# Altium footprint library SparkFun-DigitalIC.PCBLIB: 112 footprints (part 7 of 7)
Each footprint in its own frame and in the unit in brackets; x right, y up, seen from the top. Pads: shape width x height; smd on the part's side, far side on the other; paste and mask are expansions set on the pad; w line width, h text height; cw(c..) or ccw(c..) is an arc to the next point about the centre after c.
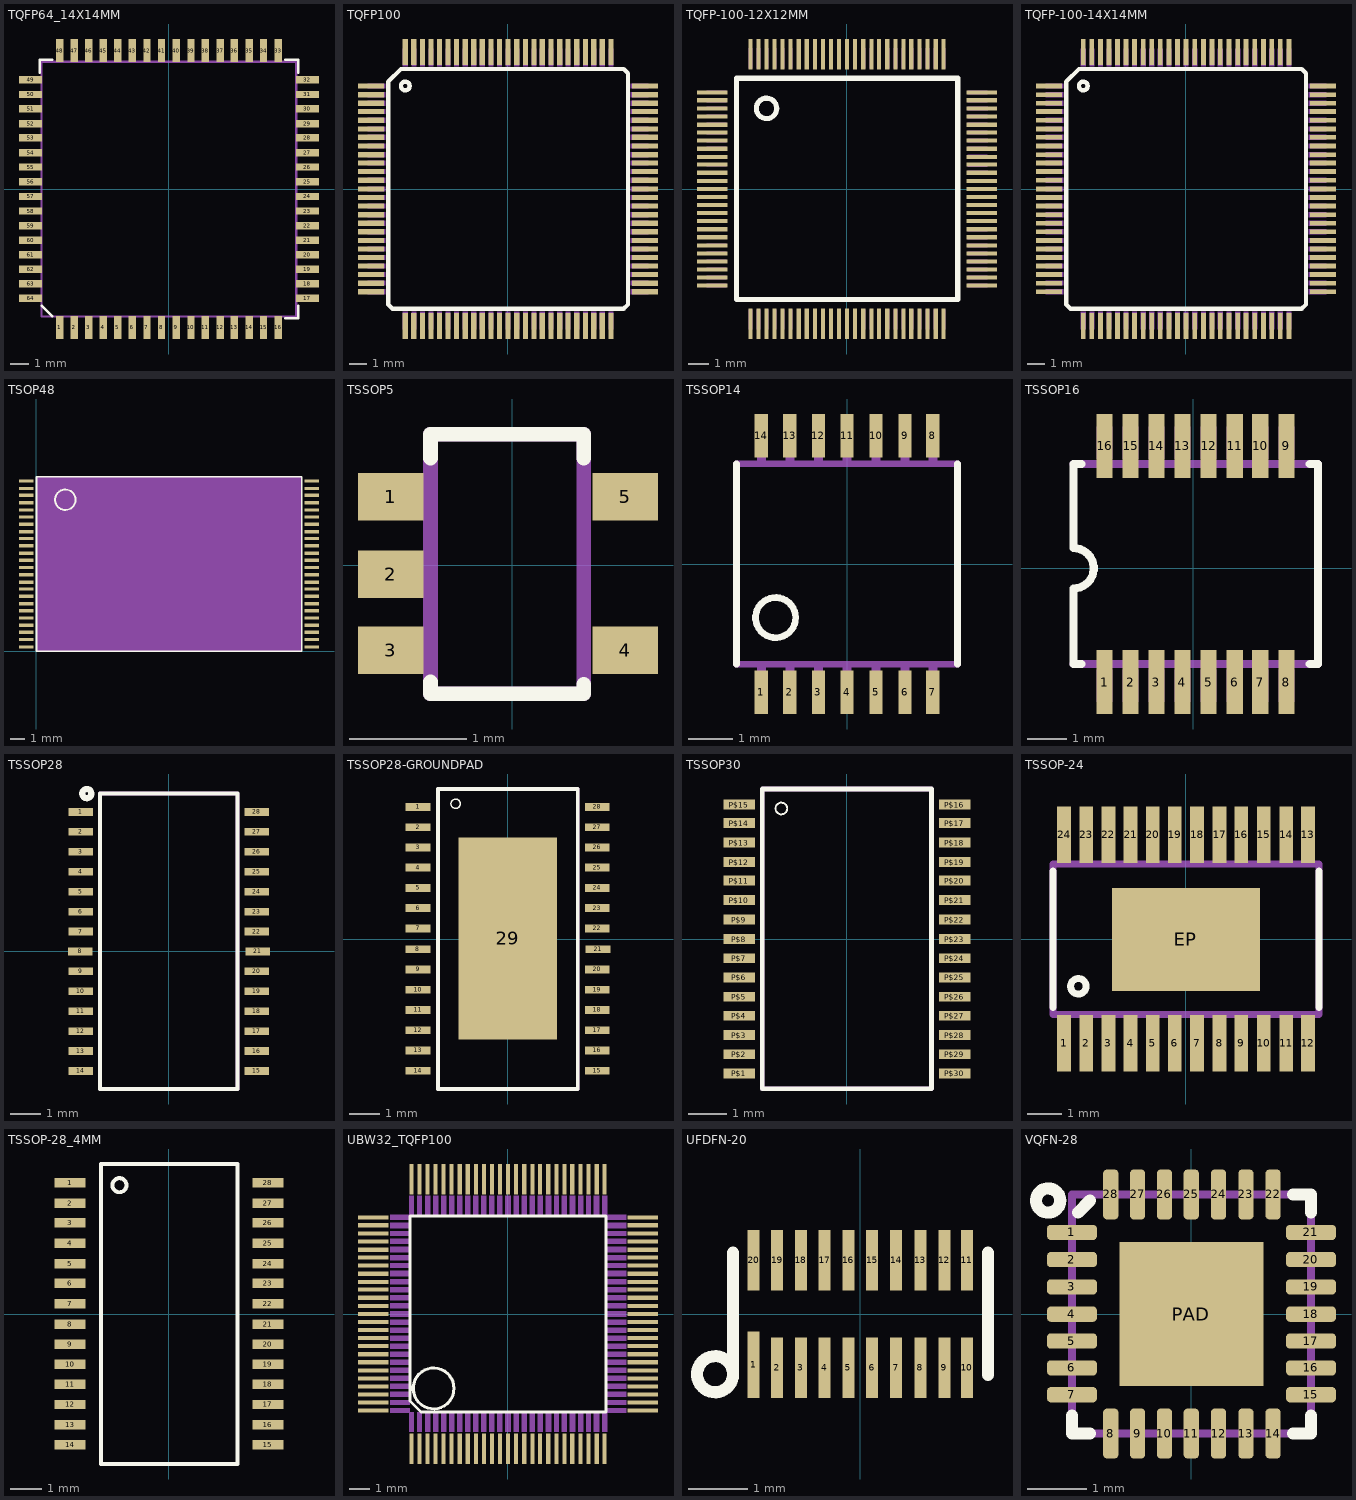
[diagram p6: the footprints below, top view; thin cyan lines are the x and y axes]

## TQFP64_14X14MM [mil]
pads (64):
  rect 16x50 smd: 1(-236.22,-299.21) 2(-204.72,-299.21) 3(-173.23,-299.21) 4(-141.73,-299.21) 5(-110.24,-299.21) 6(-78.74,-299.21) 7(-47.24,-299.21) 8(-15.75,-299.21) 9(16,-299.21) 10(48,-299.21) 11(79,-299.21) 12(111,-299.21) 13(142,-299.21) 14(174,-299.21) 15(205,-299.21) 16(237,-299.21) 33(237,300) 34(205,300) 35(174,300) 36(142,300) 37(111,300) 38(79,300) 39(48,300) 40(16,300) 41(-15.75,300) 42(-47.24,300) 43(-78.74,300) 44(-110.24,300) 45(-141.73,300) 46(-173.23,300) 47(-204.72,300) 48(-236.22,300)
  rect 50x16 smd: 17(300,-236.22) 18(300,-204.72) 19(300,-173.23) 20(300,-141.73) 21(300,-110.24) 22(300,-78.74) 23(300,-47.24) 24(300,-15.75) 25(300,16) 26(300,48) 27(300,79) 28(300,111) 29(300,142) 30(300,174) 31(300,205) 32(300,237) 49(-299.21,237) 50(-299.21,205) 51(-299.21,174) 52(-299.21,142) 53(-299.21,111) 54(-299.21,79) 55(-299.21,48) 56(-299.21,16) 57(-299.21,-15.75) 58(-299.21,-47.24) 59(-299.21,-78.74) 60(-299.21,-110.24) 61(-299.21,-141.73) 62(-299.21,-173.23) 63(-299.21,-204.72) 64(-299.21,-236.22)
Top Overlay:
  lines w5: -279.53,252 -279.53,280 -251.97,280 ; -275.59,-251.97 -251.97,-275.59 ; 252,-279.53 280,-279.53 280,-251.97 ; 252,280 280,280 280,252
Mechanical 2:
  text ">NAME" at -200,200 h24.8
Mechanical 4:
  text ">VALUE" at -200,-200 h24.8
Mechanical 16:
  lines w5: -275.59,-275.59 -275.59,276 276,276 276,-275.59 -275.59,-275.59

## TQFP100 [mil]
pads (100):
  rect 60x12 smd: 1(-314.96,237) 2(-314.96,217) 3(-314.96,197) 4(-314.96,178) 5(-314.96,158) 6(-314.96,138) 7(-314.96,119) 8(-314.96,99) 9(-314.96,79) 10(-314.96,60) 11(-314.96,40) 12(-314.96,20) 13(-314.96,0) 14(-314.96,-19.68) 15(-314.96,-39.37) 16(-314.96,-59.06) 17(-314.96,-78.74) 18(-314.96,-98.43) 19(-314.96,-118.11) 20(-314.96,-137.8) 21(-314.96,-157.48) 22(-314.96,-177.17) 23(-314.96,-196.85) 24(-314.96,-216.54) 25(-314.96,-236.22) 51(315,-236.22) 52(315,-216.54) 53(315,-196.85) 54(315,-177.17) 55(315,-157.48) 56(315,-137.8) 57(315,-118.11) 58(315,-98.43) 59(315,-78.74) 60(315,-59.06) 61(315,-39.37) 62(315,-19.68) 63(315,0) 64(315,20) 65(315,40) 66(315,60) 67(315,79) 68(315,99) 69(315,119) 70(315,138) 71(315,158) 72(315,178) 73(315,197) 74(315,217) 75(315,237)
  rect 12x60 smd: 26(-236.22,-314.96) 27(-216.54,-314.96) 28(-196.85,-314.96) 29(-177.17,-314.96) 30(-157.48,-314.96) 31(-137.8,-314.96) 32(-118.11,-314.96) 33(-98.43,-314.96) 34(-78.74,-314.96) 35(-59.06,-314.96) 36(-39.37,-314.96) 37(-19.68,-314.96) 38(0,-314.96) 39(20,-314.96) 40(40,-314.96) 41(60,-314.96) 42(79,-314.96) 43(99,-314.96) 44(119,-314.96) 45(138,-314.96) 46(158,-314.96) 47(178,-314.96) 48(197,-314.96) 49(217,-314.96) 50(237,-314.96) 76(237,315) 77(217,315) 78(197,315) 79(178,315) 80(158,315) 81(138,315) 82(119,315) 83(99,315) 84(79,315) 85(60,315) 86(40,315) 87(20,315) 88(0,315) 89(-19.68,315) 90(-39.37,315) 91(-59.06,315) 92(-78.74,315) 93(-98.43,315) 94(-118.11,315) 95(-137.8,315) 96(-157.48,315) 97(-177.17,315) 98(-196.85,315) 99(-216.54,315) 100(-236.22,315)
Top Overlay:
  circle w10: c-236.22,237 r10
  lines w10: -275.59,-265.75 -265.75,-275.59 266,-275.59 276,-265.75 276,266 266,276 -246.06,276 -275.59,247 -275.59,-265.75
Mechanical 2:
  text ">NAME" at -200,150 h24.8
Mechanical 4:
  text ">VALUE" at -200,-150 h24.8
Mechanical 16:
  rectangle: -322.83,231 -281.5,243
  rectangle: -322.83,211 -281.5,223
  rectangle: -322.83,191 -281.5,203
  rectangle: -322.83,172 -281.5,184
  rectangle: -322.83,152 -281.5,164
  rectangle: -322.83,132 -281.5,144
  rectangle: -322.83,113 -281.5,125
  rectangle: -322.83,93 -281.5,105
  rectangle: -322.83,73 -281.5,85
  rectangle: -322.83,54 -281.5,65
  rectangle: -322.83,34 -281.5,46
  rectangle: -322.83,14 -281.5,26
  rectangle: -322.83,-5.91 -281.5,6
  rectangle: -322.83,-25.59 -281.5,-13.78
  rectangle: -322.83,-45.28 -281.5,-33.46
  rectangle: -322.83,-64.96 -281.5,-53.15
  rectangle: -322.83,-84.65 -281.5,-72.83
  rectangle: -322.83,-104.33 -281.5,-92.52
  rectangle: -322.83,-124.02 -281.5,-112.2
  rectangle: -322.83,-143.7 -281.5,-131.89
  rectangle: -322.83,-163.39 -281.5,-151.57
  rectangle: -322.83,-183.07 -281.5,-171.26
  rectangle: -322.83,-202.76 -281.5,-190.94
  rectangle: -322.83,-222.44 -281.5,-210.63
  rectangle: -322.83,-242.13 -281.5,-230.31
  rectangle: -242.13,-322.83 -230.31,-281.5
  rectangle: -222.44,-322.83 -210.63,-281.5
  rectangle: -202.76,-322.83 -190.94,-281.5
  rectangle: -183.07,-322.83 -171.26,-281.5
  rectangle: -163.39,-322.83 -151.57,-281.5
  rectangle: -143.7,-322.83 -131.89,-281.5
  rectangle: -124.02,-322.83 -112.2,-281.5
  rectangle: -104.33,-322.83 -92.52,-281.5
  rectangle: -84.65,-322.83 -72.83,-281.5
  rectangle: -64.96,-322.83 -53.15,-281.5
  rectangle: -45.28,-322.83 -33.46,-281.5
  rectangle: -25.59,-322.83 -13.78,-281.5
  rectangle: -5.91,-322.83 6,-281.5
  rectangle: 14,-322.83 26,-281.5
  rectangle: 34,-322.83 46,-281.5
  rectangle: 54,-322.83 65,-281.5
  rectangle: 73,-322.83 85,-281.5
  rectangle: 93,-322.83 105,-281.5
  rectangle: 113,-322.83 125,-281.5
  rectangle: 132,-322.83 144,-281.5
  rectangle: 152,-322.83 164,-281.5
  rectangle: 172,-322.83 184,-281.5
  rectangle: 191,-322.83 203,-281.5
  rectangle: 211,-322.83 223,-281.5
  rectangle: 231,-322.83 243,-281.5
  rectangle: 282,-242.13 323,-230.31
  rectangle: 282,-222.44 323,-210.63
  rectangle: 282,-202.76 323,-190.94
  rectangle: 282,-183.07 323,-171.26
  rectangle: 282,-163.39 323,-151.57
  rectangle: 282,-143.7 323,-131.89
  rectangle: 282,-124.02 323,-112.2
  rectangle: 282,-104.33 323,-92.52
  rectangle: 282,-84.65 323,-72.83
  rectangle: 282,-64.96 323,-53.15
  rectangle: 282,-45.28 323,-33.46
  rectangle: 282,-25.59 323,-13.78
  rectangle: 282,-5.91 323,6
  rectangle: 282,14 323,26
  rectangle: 282,34 323,46
  rectangle: 282,54 323,65
  rectangle: 282,73 323,85
  rectangle: 282,93 323,105
  rectangle: 282,113 323,125
  rectangle: 282,132 323,144
  rectangle: 282,152 323,164
  rectangle: 282,172 323,184
  rectangle: 282,191 323,203
  rectangle: 282,211 323,223
  rectangle: 282,231 323,243
  rectangle: 231,282 243,323
  rectangle: 211,282 223,323
  rectangle: 191,282 203,323
  rectangle: 172,282 184,323
  rectangle: 152,282 164,323
  rectangle: 132,282 144,323
  rectangle: 113,282 125,323
  rectangle: 93,282 105,323
  rectangle: 73,282 85,323
  rectangle: 54,282 65,323
  rectangle: 34,282 46,323
  rectangle: 14,282 26,323
  rectangle: -5.91,282 6,323
  rectangle: -25.59,282 -13.78,323
  rectangle: -45.28,282 -33.46,323
  rectangle: -64.96,282 -53.15,323
  rectangle: -84.65,282 -72.83,323
  rectangle: -104.33,282 -92.52,323
  rectangle: -124.02,282 -112.2,323
  rectangle: -143.7,282 -131.89,323
  rectangle: -163.39,282 -151.57,323
  rectangle: -183.07,282 -171.26,323
  rectangle: -202.76,282 -190.94,323
  rectangle: -222.44,282 -210.63,323
  rectangle: -242.13,282 -230.31,323

## TQFP-100-12X12MM [mil]
pads (100):
  rect 60x8 smd: 1(-263.78,189) 2(-263.78,174) 3(-263.78,158) 4(-263.78,142) 5(-263.78,126) 6(-263.78,111) 7(-263.78,95) 8(-263.78,79) 9(-263.78,63) 10(-263.78,48) 11(-263.78,32) 12(-263.78,16) 13(-263.78,0) 14(-263.78,-15.75) 15(-263.78,-31.5) 16(-263.78,-47.24) 17(-263.78,-62.99) 18(-263.78,-78.74) 19(-263.78,-94.49) 20(-263.78,-110.24) 21(-263.78,-125.98) 22(-263.78,-141.73) 23(-263.78,-157.48) 24(-263.78,-173.23) 25(-263.78,-188.98) 51(264,-188.98) 52(264,-173.23) 53(264,-157.48) 54(264,-141.73) 55(264,-125.98) 56(264,-110.24) 57(264,-94.49) 58(264,-78.74) 59(264,-62.99) 60(264,-47.24) 61(264,-31.5) 62(264,-15.75) 63(264,0) 64(264,16) 65(264,32) 66(264,48) 67(264,63) 68(264,79) 69(264,95) 70(264,111) 71(264,126) 72(264,142) 73(264,158) 74(264,174) 75(264,189)
  rect 8x60 smd: 26(-188.98,-263.78) 27(-173.23,-263.78) 28(-157.48,-263.78) 29(-141.73,-263.78) 30(-125.98,-263.78) 31(-110.24,-263.78) 32(-94.49,-263.78) 33(-78.74,-263.78) 34(-62.99,-263.78) 35(-47.24,-263.78) 36(-31.5,-263.78) 37(-15.75,-263.78) 38(0,-263.78) 39(16,-263.78) 40(32,-263.78) 41(48,-263.78) 42(63,-263.78) 43(79,-263.78) 44(95,-263.78) 45(111,-263.78) 46(126,-263.78) 47(142,-263.78) 48(158,-263.78) 49(174,-263.78) 50(189,-263.78) 76(189,264) 77(174,264) 78(158,264) 79(142,264) 80(126,264) 81(111,264) 82(95,264) 83(79,264) 84(63,264) 85(48,264) 86(32,264) 87(16,264) 88(0,264) 89(-15.75,264) 90(-31.5,264) 91(-47.24,264) 92(-62.99,264) 93(-78.74,264) 94(-94.49,264) 95(-110.24,264) 96(-125.98,264) 97(-141.73,264) 98(-157.48,264) 99(-173.23,264) 100(-188.98,264)
Top Overlay:
  circle w10: c-157.48,158 r20
  lines w10: -216.54,-216.54 -216.54,217 217,217 217,-216.54 -216.54,-216.54
Mechanical 2:
  text ">NAME" at -157.48,79 h24.8
Mechanical 4:
  text ">VALUE" at -157.48,-98.43 h24.8
Mechanical 16:
  region: -236.01,185.96 -236.01,193.04 -275.01,193.04 -275.01,185.96
  region: -236.01,169.96 -236.01,177.04 -275.01,177.04 -275.01,169.96
  region: -235.51,154.46 -235.51,161.54 -275.51,161.54 -275.51,154.46
  region: -236.01,138.96 -236.01,146.04 -275.01,146.04 -275.01,138.96
  region: -236.01,122.96 -236.01,130.04 -275.01,130.04 -275.01,122.96
  region: -236.01,106.96 -236.01,114.04 -275.01,114.04 -275.01,106.96
  region: -235.51,91.46 -235.51,98.54 -275.51,98.54 -275.51,91.46
  region: -236.01,75.96 -236.01,83.04 -275.01,83.04 -275.01,75.96
  region: -236.01,59.96 -236.01,67.04 -275.01,67.04 -275.01,59.96
  region: -236.01,43.96 -236.01,51.04 -275.01,51.04 -275.01,43.96
  region: -235.51,28.46 -235.51,35.54 -275.51,35.54 -275.51,28.46
  region: -235.54,12.49 -235.54,19.57 -275.48,19.57 -275.48,12.49
  region: -235.67,-3.39 -235.67,3.7 -275.35,3.7 -275.35,-3.39
  region: -235.8,-19.26 -235.8,-12.17 -275.23,-12.17 -275.23,-19.26
  region: -235.83,-35.04 -235.83,-27.95 -275.2,-27.95 -275.2,-35.04
  region: -235.83,-50.79 -235.83,-43.7 -275.2,-43.7 -275.2,-50.79
  region: -235.83,-66.54 -235.83,-59.45 -275.2,-59.45 -275.2,-66.54
  region: -235.83,-82.28 -235.83,-75.2 -275.2,-75.2 -275.2,-82.28
  region: -235.83,-98.03 -235.83,-90.94 -275.2,-90.94 -275.2,-98.03
  region: -235.83,-113.78 -235.83,-106.69 -275.2,-106.69 -275.2,-113.78
  region: -235.83,-129.53 -235.83,-122.44 -275.2,-122.44 -275.2,-129.53
  region: -235.83,-145.28 -235.83,-138.19 -275.2,-138.19 -275.2,-145.28
  region: -235.83,-161.02 -235.83,-153.94 -275.2,-153.94 -275.2,-161.02
  region: -235.83,-176.77 -235.83,-169.69 -275.2,-169.69 -275.2,-176.77
  region: -235.83,-192.52 -235.83,-185.43 -275.2,-185.43 -275.2,-192.52
  region: -185.43,-235.83 -192.52,-235.83 -192.52,-275.2 -185.43,-275.2
  region: -169.69,-235.83 -176.77,-235.83 -176.77,-275.2 -169.69,-275.2
  region: -153.94,-235.83 -161.02,-235.83 -161.02,-275.2 -153.94,-275.2
  region: -138.19,-235.83 -145.28,-235.83 -145.28,-275.2 -138.19,-275.2
  region: -122.44,-235.83 -129.53,-235.83 -129.53,-275.2 -122.44,-275.2
  region: -106.69,-235.83 -113.78,-235.83 -113.78,-275.2 -106.69,-275.2
  region: -90.94,-235.83 -98.03,-235.83 -98.03,-275.2 -90.94,-275.2
  region: -75.2,-235.83 -82.28,-235.83 -82.28,-275.2 -75.2,-275.2
  region: -59.45,-235.83 -66.54,-235.83 -66.54,-275.2 -59.45,-275.2
  region: -43.7,-235.83 -50.79,-235.83 -50.79,-275.2 -43.7,-275.2
  region: -27.95,-235.83 -35.04,-235.83 -35.04,-275.2 -27.95,-275.2
  region: -12.2,-235.83 -19.29,-235.83 -19.29,-275.2 -12.2,-275.2
  region: 4,-235.83 -3.54,-235.83 -3.54,-275.2 4,-275.2
  region: 20,-235.83 13,-235.83 13,-275.2 20,-275.2
  region: 36,-235.83 28,-235.83 28,-275.2 36,-275.2
  region: 51,-235.83 44,-235.83 44,-275.2 51,-275.2
  region: 67,-235.83 60,-235.83 60,-275.2 67,-275.2
  region: 83,-235.83 76,-235.83 76,-275.2 83,-275.2
  region: 99,-235.83 91,-235.83 91,-275.2 99,-275.2
  region: 114,-235.83 107,-235.83 107,-275.2 114,-275.2
  region: 130,-235.83 123,-235.83 123,-275.2 130,-275.2
  region: 146,-235.83 139,-235.83 139,-275.2 146,-275.2
  region: 162,-235.83 154,-235.83 154,-275.2 162,-275.2
  region: 162,-235.83 154,-235.83 154,-275.2 162,-275.2
  region: 177,-235.83 170,-235.83 170,-275.2 177,-275.2
  region: 193,-235.83 186,-235.83 186,-275.2 193,-275.2
  region: 236.31,-184.98 236.31,-192.98 275.69,-192.98 275.69,-184.98
  region: 236.31,-169.23 236.31,-177.23 275.69,-177.23 275.69,-169.23
  region: 236.31,-153.48 236.31,-161.48 275.69,-161.48 275.69,-153.48
  region: 236.31,-153.48 236.31,-161.48 275.69,-161.48 275.69,-153.48
  region: 236.31,-137.73 236.31,-145.73 275.69,-145.73 275.69,-137.73
  region: 236.31,-137.73 236.31,-145.73 275.69,-145.73 275.69,-137.73
  region: 236.31,-121.98 236.31,-129.98 275.69,-129.98 275.69,-121.98
  region: 236.31,-106.24 236.31,-114.24 275.69,-114.24 275.69,-106.24
  region: 236.31,-90.49 236.31,-98.49 275.69,-98.49 275.69,-90.49
  region: 236.31,-74.74 236.31,-82.74 275.69,-82.74 275.69,-74.74
  region: 236.31,-58.99 236.31,-66.99 275.69,-66.99 275.69,-58.99
  region: 236.31,-43.24 236.31,-51.24 275.69,-51.24 275.69,-43.24
  region: 236.31,-27.5 236.31,-35.5 275.69,-35.5 275.69,-27.5
  region: 236.28,-11.72 236.28,-19.72 275.72,-19.72 275.72,-11.72
  region: 236.16,4.16 236.16,-3.84 275.84,-3.84 275.84,4.16
  region: 236.03,20.03 236.03,12.03 275.97,12.03 275.97,20.03
  region: 236,36 236,28 276,28 276,36
  region: 236.5,51.5 236.5,43.5 275.5,43.5 275.5,51.5
  region: 236.5,67.5 236.5,59.5 275.5,59.5 275.5,67.5
  region: 236.5,83.5 236.5,75.5 275.5,75.5 275.5,83.5
  region: 236,99 236,91 276,91 276,99
  region: 236.5,114.5 236.5,106.5 275.5,106.5 275.5,114.5
  region: 236.5,130.5 236.5,122.5 275.5,122.5 275.5,130.5
  region: 236.5,146.5 236.5,138.5 275.5,138.5 275.5,146.5
  region: 236,162 236,154 276,154 276,162
  region: 236.5,177.5 236.5,169.5 275.5,169.5 275.5,177.5
  region: 236.5,193.5 236.5,185.5 275.5,185.5 275.5,193.5
  rectangle: 186,236 193,276
  rectangle: 170,236 177,276
  rectangle: 154,236 162,276
  rectangle: 139,236 146,276
  rectangle: 123,236 130,276
  rectangle: 107,236 114,276
  rectangle: 91,236 99,276
  rectangle: 76,236 83,276
  rectangle: 60,236 67,276
  rectangle: 44,236 51,276
  rectangle: 28,236 36,276
  rectangle: 13,236 20,276
  rectangle: -3.54,236 4,276
  rectangle: -19.29,236 -12.2,276
  rectangle: -35.04,236 -27.95,276
  rectangle: -50.79,236 -43.7,276
  rectangle: -66.54,236 -59.45,276
  rectangle: -82.28,236 -75.2,276
  rectangle: -82.28,236 -75.2,276
  rectangle: -98.03,236 -90.94,276
  rectangle: -113.78,236 -106.69,276
  rectangle: -129.53,236 -122.44,276
  rectangle: -145.28,236 -138.19,276
  rectangle: -161.02,236 -153.94,276
  rectangle: -176.77,236 -169.69,276
  rectangle: -192.52,236 -185.43,276

## TQFP-100-14X14MM [mil]
pads (100):
  rect 60x11 smd: 1(-314.96,237) 2(-314.96,217) 3(-314.96,197) 4(-314.96,178) 5(-314.96,158) 6(-314.96,138) 7(-314.96,119) 8(-314.96,99) 9(-314.96,79) 10(-314.96,60) 11(-314.96,40) 12(-314.96,20) 13(-314.96,0) 14(-314.96,-19.68) 15(-314.96,-39.37) 16(-314.96,-59.06) 17(-314.96,-78.74) 18(-314.96,-98.43) 19(-314.96,-118.11) 20(-314.96,-137.8) 21(-314.96,-157.48) 22(-314.96,-177.17) 23(-314.96,-196.85) 24(-314.96,-216.54) 25(-314.96,-236.22) 51(315,-236.22) 52(315,-216.54) 53(315,-196.85) 54(315,-177.17) 55(315,-157.48) 56(315,-137.8) 57(315,-118.11) 58(315,-98.43) 59(315,-78.74) 60(315,-59.06) 61(315,-39.37) 62(315,-19.68) 63(315,0) 64(315,20) 65(315,40) 66(315,60) 67(315,79) 68(315,99) 69(315,119) 70(315,138) 71(315,158) 72(315,178) 73(315,197) 74(315,217) 75(315,237)
  rect 11x60 smd: 26(-236.22,-314.96) 27(-216.54,-314.96) 28(-196.85,-314.96) 29(-177.17,-314.96) 30(-157.48,-314.96) 31(-137.8,-314.96) 32(-118.11,-314.96) 33(-98.43,-314.96) 34(-78.74,-314.96) 35(-59.06,-314.96) 36(-39.37,-314.96) 37(-19.68,-314.96) 38(0,-314.96) 39(20,-314.96) 40(40,-314.96) 41(60,-314.96) 42(79,-314.96) 43(99,-314.96) 44(119,-314.96) 45(138,-314.96) 46(158,-314.96) 47(178,-314.96) 48(197,-314.96) 49(217,-314.96) 50(237,-314.96) 76(237,315) 77(217,315) 78(197,315) 79(178,315) 80(158,315) 81(138,315) 82(119,315) 83(99,315) 84(79,315) 85(60,315) 86(40,315) 87(20,315) 88(0,315) 89(-19.68,315) 90(-39.37,315) 91(-59.06,315) 92(-78.74,315) 93(-98.43,315) 94(-118.11,315) 95(-137.8,315) 96(-157.48,315) 97(-177.17,315) 98(-196.85,315) 99(-216.54,315) 100(-236.22,315)
Top Overlay:
  circle w10: c-236.22,237 r10
  lines w10: -275.59,-265.75 -265.75,-275.59 266,-275.59 276,-265.75 276,266 266,276 -246.06,276 -275.59,247 -275.59,-265.75
Mechanical 2:
  text ">NAME" at -151.77,164 h24.8
Mechanical 4:
  text ">VALUE" at -151.19,-170.07 h24.8
Mechanical 16:
  rectangle: -322.83,231 -281.5,243
  rectangle: -322.83,211 -281.5,223
  rectangle: -322.83,191 -281.5,203
  rectangle: -322.83,172 -281.5,184
  rectangle: -322.83,152 -281.5,164
  rectangle: -322.83,132 -281.5,144
  rectangle: -322.83,113 -281.5,125
  rectangle: -322.83,93 -281.5,105
  rectangle: -322.83,73 -281.5,85
  rectangle: -322.83,54 -281.5,65
  rectangle: -322.83,34 -281.5,46
  rectangle: -322.83,14 -281.5,26
  rectangle: -322.83,-5.91 -281.5,6
  rectangle: -322.83,-25.59 -281.5,-13.78
  rectangle: -322.83,-45.28 -281.5,-33.46
  rectangle: -322.83,-64.96 -281.5,-53.15
  rectangle: -322.83,-84.65 -281.5,-72.83
  rectangle: -322.83,-104.33 -281.5,-92.52
  rectangle: -322.83,-124.02 -281.5,-112.2
  rectangle: -322.83,-143.7 -281.5,-131.89
  rectangle: -322.83,-163.39 -281.5,-151.57
  rectangle: -322.83,-183.07 -281.5,-171.26
  rectangle: -322.83,-202.76 -281.5,-190.94
  rectangle: -322.83,-222.44 -281.5,-210.63
  rectangle: -322.83,-242.13 -281.5,-230.31
  rectangle: -242.13,-322.83 -230.31,-281.5
  rectangle: -222.44,-322.83 -210.63,-281.5
  rectangle: -202.76,-322.83 -190.94,-281.5
  rectangle: -183.07,-322.83 -171.26,-281.5
  rectangle: -163.39,-322.83 -151.57,-281.5
  rectangle: -143.7,-322.83 -131.89,-281.5
  rectangle: -124.02,-322.83 -112.2,-281.5
  rectangle: -104.33,-322.83 -92.52,-281.5
  rectangle: -84.65,-322.83 -72.83,-281.5
  rectangle: -64.96,-322.83 -53.15,-281.5
  rectangle: -45.28,-322.83 -33.46,-281.5
  rectangle: -25.59,-322.83 -13.78,-281.5
  rectangle: -5.91,-322.83 6,-281.5
  rectangle: 14,-322.83 26,-281.5
  rectangle: 34,-322.83 46,-281.5
  rectangle: 54,-322.83 65,-281.5
  rectangle: 73,-322.83 85,-281.5
  rectangle: 93,-322.83 105,-281.5
  rectangle: 113,-322.83 125,-281.5
  rectangle: 132,-322.83 144,-281.5
  rectangle: 152,-322.83 164,-281.5
  rectangle: 172,-322.83 184,-281.5
  rectangle: 191,-322.83 203,-281.5
  rectangle: 211,-322.83 223,-281.5
  rectangle: 231,-322.83 243,-281.5
  rectangle: 282,-242.13 323,-230.31
  rectangle: 282,-222.44 323,-210.63
  rectangle: 282,-202.76 323,-190.94
  rectangle: 282,-183.07 323,-171.26
  rectangle: 282,-163.39 323,-151.57
  rectangle: 282,-143.7 323,-131.89
  rectangle: 282,-124.02 323,-112.2
  rectangle: 282,-104.33 323,-92.52
  rectangle: 282,-84.65 323,-72.83
  rectangle: 282,-64.96 323,-53.15
  rectangle: 282,-45.28 323,-33.46
  rectangle: 282,-25.59 323,-13.78
  rectangle: 282,-5.91 323,6
  rectangle: 282,14 323,26
  rectangle: 282,34 323,46
  rectangle: 282,54 323,65
  rectangle: 282,73 323,85
  rectangle: 282,93 323,105
  rectangle: 282,113 323,125
  rectangle: 282,132 323,144
  rectangle: 282,152 323,164
  rectangle: 282,172 323,184
  rectangle: 282,191 323,203
  rectangle: 282,211 323,223
  rectangle: 282,231 323,243
  rectangle: 231,282 243,323
  rectangle: 211,282 223,323
  rectangle: 191,282 203,323
  rectangle: 172,282 184,323
  rectangle: 152,282 164,323
  rectangle: 132,282 144,323
  rectangle: 113,282 125,323
  rectangle: 93,282 105,323
  rectangle: 73,282 85,323
  rectangle: 54,282 65,323
  rectangle: 34,282 46,323
  rectangle: 14,282 26,323
  rectangle: -5.91,282 6,323
  rectangle: -25.59,282 -13.78,323
  rectangle: -45.28,282 -33.46,323
  rectangle: -64.96,282 -53.15,323
  rectangle: -84.65,282 -72.83,323
  rectangle: -104.33,282 -92.52,323
  rectangle: -124.02,282 -112.2,323
  rectangle: -143.7,282 -131.89,323
  rectangle: -163.39,282 -151.57,323
  rectangle: -183.07,282 -171.26,323
  rectangle: -202.76,282 -190.94,323
  rectangle: -222.44,282 -210.63,323
  rectangle: -242.13,282 -230.31,323

## TSOP48 [mil]
pads (48):
  rect 40x9 smd: 1(-27.56,465) 2(-27.56,445) 3(-27.56,426) 4(-27.56,406) 5(-27.56,386) 6(-27.56,367) 7(-27.56,347) 8(-27.56,327) 9(-27.56,308) 10(-27.56,288) 11(-27.56,268) 12(-27.56,249) 13(-27.56,229) 14(-27.56,209) 15(-27.56,189) 16(-27.56,170) 17(-27.56,150) 18(-27.56,130) 19(-27.56,111) 20(-27.56,91) 21(-27.56,71) 22(-27.56,52) 23(-27.56,32) 24(-27.56,12) 25(752,12) 26(752,32) 27(752,52) 28(752,71) 29(752,91) 30(752,111) 31(752,130) 32(752,150) 33(752,170) 34(752,189) 35(752,209) 36(752,229) 37(752,249) 38(752,268) 39(752,288) 40(752,308) 41(752,327) 42(752,347) 43(752,367) 44(752,386) 45(752,406) 46(752,426) 47(752,445) 48(752,465)
Top Overlay:
  circle w5: c79,414 r28
  lines w5: 0,0 725,0 725,477 0,477 0,0
Mechanical 2:
  text ">NAME" at 20,493 h24.8
Mechanical 4:
  text ">VALUE" at 119,493 h24.8
Mechanical 16:
  rectangle: 0,0 725,477

## TSSOP5 [mil]
pads (5):
  rect 22x16 smd: 1(-40.94,23) 2(-40.94,-3.15) 3(-40.94,-28.74) 4(38,-28.74) 5(38,23)
Top Overlay:
  lines w5: -27.56,-39.37 -27.56,-43.31 24,-43.31 24,-40.16 ; -27.56,36 -27.56,44 24,44 ; 24,36 24,44 ; 24,44 24,44
Mechanical 2:
  text ">Name" at -27.95,-61.42 h15.5
Mechanical 4:
  text ">Value" at -27.17,50 h15.5
Mechanical 16:
  lines w5: -27.56,-43.31 24,-43.31 24,44 -27.56,44 -27.56,-43.31

## TSSOP14 [mil]
pads (14):
  rect 12x39 smd: 1(-76.77,-114.87) 2(-51.18,-114.87) 3(-25.59,-114.87) 4(0,-114.87) 5(26,-114.87) 6(52,-114.87) 7(77,-114.87) 8(77,115) 9(52,115) 10(26,115) 11(0,115) 12(-25.59,115) 13(-51.18,115) 14(-76.77,115)
Top Overlay:
  circle w6: c-64,-48 r18
  lines w6: -99,-89.87 -99,90 ; 99,-89.87 99,90
Mechanical 2:
  text ">NAME" at -114,-82 h62
Mechanical 4:
  text ">VALUE" at 153,-82 h62
Mechanical 16:
  rectangle: -80.77,-122.87 -72.77,-89.87
  rectangle: -55.18,-122.87 -47.18,-89.87
  rectangle: -29.59,-122.87 -21.59,-89.87
  rectangle: -4,-122.87 4,-89.87
  rectangle: 22,-122.87 30,-89.87
  rectangle: 48,-122.87 56,-89.87
  rectangle: 73,-122.87 81,-89.87
  rectangle: 73,90 81,123
  rectangle: 48,90 56,123
  rectangle: 22,90 30,123
  rectangle: -4,90 4,123
  rectangle: -29.59,90 -21.59,123
  rectangle: -55.18,90 -47.18,123
  rectangle: -80.77,90 -72.77,123
  lines w6: -99,-89.87 99,-89.87 ; -99,90 99,90

## TSSOP16 [mil]
pads (16):
  rect 16x63 smd: 1(-87.6,-112.2) 2(-62.01,-112.2) 3(-36.42,-112.2) 4(-10.83,-112.2) 5(15,-112.2) 6(41,-112.2) 7(66,-112.2) 8(92,-112.2) 9(92,121) 10(66,121) 11(41,121) 12(15,121) 13(-10.83,121) 14(-36.42,121) 15(-62.01,121) 16(-87.6,121)
Top Overlay:
  lines w8: -110.24,-94.49 -118.11,-94.49 -118.11,-19.68 ccw(c-118.11,0.16) -118.11,20 -118.11,103 -110.24,103 ; 115,-94.49 123,-94.49 123,103 115,103
Mechanical 2:
  text ">NAME" at -60,-50 h37.2
Mechanical 4:
  text ">VALUE" at -60,35 h37.2
Mechanical 16:
  rectangle: -95.47,-131.89 -79.72,-99.6
  rectangle: -69.88,-131.89 -54.13,-99.6
  rectangle: -44.29,-131.89 -28.54,-99.6
  rectangle: -18.7,-131.89 -2.95,-99.6
  rectangle: 7,-131.89 23,-99.6
  rectangle: 33,-131.89 49,-99.6
  rectangle: 59,-131.89 74,-99.6
  rectangle: 84,-131.89 100,-99.6
  rectangle: 84,108 100,140
  rectangle: 59,108 74,140
  rectangle: 33,108 49,140
  rectangle: 7,108 23,140
  rectangle: -18.7,108 -2.95,140
  rectangle: -44.29,108 -28.54,140
  rectangle: -69.88,108 -54.13,140
  rectangle: -95.47,108 -79.72,140
  rectangle: -95.47,-131.89 -79.72,-99.6
  rectangle: -69.88,-131.89 -54.13,-99.6
  rectangle: -44.29,-131.89 -28.54,-99.6
  rectangle: -18.7,-131.89 -2.95,-99.6
  rectangle: 7,-131.89 23,-99.6
  rectangle: 33,-131.89 49,-99.6
  rectangle: 59,-131.89 74,-99.6
  rectangle: 84,-131.89 100,-99.6
  rectangle: 84,108 100,140
  rectangle: 59,108 74,140
  rectangle: 33,108 49,140
  rectangle: 7,108 23,140
  rectangle: -18.7,108 -2.95,140
  rectangle: -44.29,108 -28.54,140
  rectangle: -69.88,108 -54.13,140
  rectangle: -95.47,108 -79.72,140
  lines w8: -118.11,-94.49 123,-94.49 123,103 -118.11,103

## TSSOP28 [mil]
pads (28):
  rect 32x10 smd: 1(-115,182) 2(-115,156) 3(-115,130) 4(-115,104) 5(-115,78) 6(-115,52) 7(-115,26) 8(-115.24,0) 9(-115,-26) 10(-115,-52) 11(-115,-78) 12(-115,-104) 13(-115,-130) 14(-115,-156) 15(115,-156) 16(115,-130) 17(115,-104) 18(115,-78) 19(115,-52) 20(115,-26) 21(116,0) 22(115,26) 23(115,52) 24(115,78) 25(115,104) 26(115,130) 27(115,156) 28(115,182)
Top Overlay:
  circle w8: c-106.93,206 r6
  lines w5: -89.61,-179.54 90,-179.54 90,206 -89.61,206 -89.61,-179.54
Mechanical 2:
  text ">Name" at -82.68,214 h15.5
Mechanical 4:
  text ">Value" at -82.68,-197.23 h15.5
Mechanical 16:
  lines w5: -89.61,-179.54 90,-179.54 90,206 -89.61,206 -89.61,-179.54

## TSSOP28-GROUNDPAD [mil]
pads (29):
  rect 32x10 smd: 1(-115,170) 2(-115,144) 3(-115,118) 4(-115,92) 5(-115,66) 6(-115,40) 7(-115,14) 8(-115.24,-12.8) 9(-115,-38.8) 10(-115,-64.8) 11(-115,-90.8) 12(-115,-116.8) 13(-115,-142.8) 14(-115,-168.8) 15(115,-168.8) 16(115,-142.8) 17(115,-116.8) 18(115,-90.8) 19(115,-64.8) 20(115,-38.8) 21(116,-12.8) 22(115,14) 23(115,40) 24(115,66) 25(115,92) 26(115,118) 27(115,144) 28(115,170)
  rect 126x260 smd: 29(0,1)
Top Overlay:
  circle w2: c-66.93,174 r6
  lines w5: -89.61,-192.34 90,-192.34 90,193 -89.61,193 -89.61,-192.34
Top Paste:
  region: 0,0 10,0 10,10 0,10
Mechanical 2:
  text ">Name" at -82.68,201 h15.5
Mechanical 4:
  text ">Value" at -82.68,-210.02 h15.5
Mechanical 16:
  lines w5: -89.61,-192.34 90,-192.34 90,193 -89.61,193 -89.61,-192.34

## TSSOP30 [mil]
pads (30):
  rect 32x10 smd: P$1(-110.24,-137.8) P$2(-110.24,-118.11) P$3(-110.24,-98.43) P$4(-110.24,-78.74) P$5(-110.24,-59.06) P$6(-110.24,-39.37) P$7(-110.24,-19.68) P$8(-110.24,0) P$9(-110.24,20) P$10(-110.24,40) P$11(-110.24,60) P$12(-110.24,79) P$13(-110.24,99) P$14(-110.24,119) P$15(-110.24,138) P$16(111,138) P$17(111,119) P$18(111,99) P$19(111,79) P$20(111,60) P$21(111,40) P$22(111,20) P$23(111,0) P$24(111,-19.68) P$25(111,-39.37) P$26(111,-59.06) P$27(111,-78.74) P$28(111,-98.43) P$29(111,-118.11) P$30(111,-137.8)
Top Overlay:
  circle w2: c-66.93,134 r6
  lines w5: -86.61,-153.54 87,-153.54 87,154 -86.61,154 -86.61,-153.54
Mechanical 2:
  text ">Name" at -82.68,162 h15.5
Mechanical 4:
  text ">Value" at -82.68,-173.23 h15.5
Mechanical 16:
  lines w5: -86.61,-153.54 87,-153.54 87,154 -86.61,154 -86.61,-153.54

## TSSOP-24 [mil]
pads (25):
  rect 16x65 smd: 1(-140.75,-120.08) 2(-115.16,-120.08) 3(-89.57,-120.08) 4(-63.98,-120.08) 5(-38.39,-120.08) 6(-12.8,-120.08) 7(13,-120.08) 8(39,-120.08) 9(64,-120.08) 10(90,-120.08) 11(116,-120.08) 12(141,-120.08) 13(141,121) 14(116,121) 15(90,121) 16(64,121) 17(39,121) 18(13,121) 19(-12.8,121) 20(-38.39,121) 21(-63.98,121) 22(-89.57,121) 23(-115.16,121) 24(-140.75,121)
  rect 171x119 smd: EP(0,0)
Top Overlay:
  circle w8: c-124.25,-54.25 r9
  lines w8: -153.54,-78.74 -153.54,79 ; 154,-78.74 154,79
Mechanical 2:
  text ">NAME" at -164.17,-79.13 h24.8
Mechanical 4:
  text ">VALUE" at 182,-79.13 h24.8
Mechanical 16:
  rectangle: 8,-125.98 18,-86.61
  rectangle: 34,-125.98 44,-86.61
  rectangle: 60,-125.98 69,-86.61
  rectangle: 85,-125.98 95,-86.61
  rectangle: 111,-125.98 121,-86.61
  rectangle: 136,-125.98 146,-86.61
  rectangle: -17.72,-125.98 -7.87,-86.61
  rectangle: -43.31,-125.98 -33.46,-86.61
  rectangle: -68.9,-125.98 -59.06,-86.61
  rectangle: -94.49,-125.98 -84.65,-86.61
  rectangle: -120.08,-125.98 -110.24,-86.61
  rectangle: -145.67,-125.98 -135.83,-86.61
  rectangle: 8,87 18,126
  rectangle: 34,87 44,126
  rectangle: 60,87 69,126
  rectangle: 85,87 95,126
  rectangle: 111,87 121,126
  rectangle: 136,87 146,126
  rectangle: -17.72,87 -7.87,126
  rectangle: -43.31,87 -33.46,126
  rectangle: -68.9,87 -59.06,126
  rectangle: -94.49,87 -84.65,126
  rectangle: -120.08,87 -110.24,126
  rectangle: -145.67,87 -135.83,126
  lines w8: -153.54,-86.61 154,-86.61 154,87 -153.54,87 -153.54,-86.61

## TSSOP-28_4MM [mil]
pads (28):
  rect 40x12 smd: 1(-125.98,167) 2(-125.98,141) 3(-125.98,116) 4(-125.98,90) 5(-125.98,64) 6(-125.98,39) 7(-125.98,13) 8(-125.98,-12.8) 9(-125.98,-38.39) 10(-125.98,-63.98) 11(-125.98,-89.57) 12(-125.98,-115.16) 13(-125.98,-140.75) 14(-125.98,-166.34) 15(126,-166.34) 16(126,-140.75) 17(126,-115.16) 18(126,-89.57) 19(126,-63.98) 20(126,-38.39) 21(126,-12.8) 22(126,13) 23(126,39) 24(126,64) 25(126,90) 26(126,116) 27(126,141) 28(126,167)
Top Overlay:
  circle w5: c-62.99,164 r9
  lines w5: -86.61,-190.94 87,-190.94 87,191 -86.61,191 -86.61,-190.94
Mechanical 2:
  text ">NAME" at -50,50 h24.8
Mechanical 4:
  text ">VALUE" at -50,0 h24.8

## UBW32_TQFP100 [mil]
pads (100):
  rect 8x60 smd: 1(-188.98,-263.78) 2(-173.23,-263.78) 3(-157.48,-263.78) 4(-141.73,-263.78) 5(-125.98,-263.78) 6(-110.24,-263.78) 7(-94.49,-263.78) 8(-78.74,-263.78) 9(-62.99,-263.78) 10(-47.24,-263.78) 11(-31.5,-263.78) 12(-15.75,-263.78) 13(0,-263.78) 14(16,-263.78) 15(32,-263.78) 16(48,-263.78) 17(63,-263.78) 18(79,-263.78) 19(95,-263.78) 20(111,-263.78) 21(126,-263.78) 22(142,-263.78) 23(158,-263.78) 24(174,-263.78) 25(189,-263.78) 51(189,264) 52(174,264) 53(158,264) 54(142,264) 55(126,264) 56(111,264) 57(95,264) 58(79,264) 59(63,264) 60(48,264) 61(32,264) 62(16,264) 63(0,264) 64(-15.75,264) 65(-31.5,264) 66(-47.24,264) 67(-62.99,264) 68(-78.74,264) 69(-94.49,264) 70(-110.24,264) 71(-125.98,264) 72(-141.73,264) 73(-157.48,264) 74(-173.23,264) 75(-188.98,264)
  rect 60x8 smd: 26(264,-188.98) 27(264,-173.23) 28(264,-157.48) 29(264,-141.73) 30(264,-125.98) 31(264,-110.24) 32(264,-94.49) 33(264,-78.74) 34(264,-62.99) 35(264,-47.24) 36(264,-31.5) 37(264,-15.75) 38(264,0) 39(264,16) 40(264,32) 41(264,48) 42(264,63) 43(264,79) 44(264,95) 45(264,111) 46(264,126) 47(264,142) 48(264,158) 49(264,174) 50(264,189) 76(-263.78,189) 77(-263.78,174) 78(-263.78,158) 79(-263.78,142) 80(-263.78,126) 81(-263.78,111) 82(-263.78,95) 83(-263.78,79) 84(-263.78,63) 85(-263.78,48) 86(-263.78,32) 87(-263.78,16) 88(-263.78,0) 89(-263.78,-15.75) 90(-263.78,-31.5) 91(-263.78,-47.24) 92(-263.78,-62.99) 93(-263.78,-78.74) 94(-263.78,-94.49) 95(-263.78,-110.24) 96(-263.78,-125.98) 97(-263.78,-141.73) 98(-263.78,-157.48) 99(-263.78,-173.23) 100(-263.78,-188.98)
Top Overlay:
  circle w6: c-145.67,-145.67 r40
  lines w6: -191.85,-170.2 -170.2,-191.85 192,-191.85 192,192 -191.85,192 -191.85,-170.2
Top Paste:
  rectangle: -283.8,186 -251.4,193
  rectangle: -273.7,170 -242.3,177
  rectangle: -282.9,154 -250.5,162
  rectangle: -272.8,139 -241.4,146
  rectangle: -283.4,123 -251,130
  rectangle: -273.3,107 -241.9,114
  rectangle: -283.8,91 -251.4,99
  rectangle: -273.7,76 -242.3,83
  rectangle: -283.8,60 -251.4,67
  rectangle: -273.7,44 -242.3,51
  rectangle: -282.9,28 -250.5,36
  rectangle: -272.8,13 -241.4,20
  rectangle: -283.4,-3.5 -251,4
  rectangle: -273.3,-19 -241.9,-12
  rectangle: -283.8,-35 -251.4,-27.7
  rectangle: -273.7,-50.5 -242.3,-43.5
  rectangle: -283.8,-66.7 -251.4,-59.4
  rectangle: -273.7,-82.2 -242.3,-75.2
  rectangle: -282.9,-98.2 -250.5,-90.9
  rectangle: -272.8,-113.7 -241.4,-106.7
  rectangle: -283.4,-129.6 -251,-122.3
  rectangle: -273.3,-145.1 -241.9,-138.1
  rectangle: -283.8,-161.1 -251.4,-153.8
  rectangle: -273.7,-176.6 -242.3,-169.6
  rectangle: -283.8,-192.7 -251.4,-185.4
  region: -185.45,243.3 -185.45,275.7 -192.45,275.7 -192.45,243.3
  region: -169.8,253.8 -169.8,285.2 -176.8,285.2 -176.8,253.8
  region: -153.95,244.3 -153.95,276.7 -160.95,276.7 -160.95,244.3
  region: -138.3,254.8 -138.3,286.2 -145.3,286.2 -145.3,254.8
  region: -122.05,243.8 -122.05,276.2 -130.05,276.2 -130.05,243.8
  region: -106.9,253.8 -106.9,285.2 -113.9,285.2 -113.9,253.8
  region: -91.05,243.3 -91.05,275.7 -98.05,275.7 -98.05,243.3
  region: -75.4,253.8 -75.4,285.2 -82.4,285.2 -82.4,253.8
  region: -59.55,243.3 -59.55,275.7 -66.55,275.7 -66.55,243.3
  region: -43.9,253.8 -43.9,285.2 -50.9,285.2 -50.9,253.8
  region: -28.05,244.3 -28.05,276.7 -35.05,276.7 -35.05,244.3
  region: -12.4,254.8 -12.4,286.2 -19.4,286.2 -19.4,254.8
  region: 4.32,243.32 4.32,276.68 -3.68,276.68 -3.68,243.32
  region: 19.4,253.4 19.4,285.6 12.4,285.6 12.4,253.4
  region: 35.5,243.5 35.5,275.5 28.5,275.5 28.5,243.5
  region: 51,254 51,285 44,285 44,254
  region: 67,243 67,276 60,276 60,243
  region: 82.5,253.5 82.5,285.5 75.5,285.5 75.5,253.5
  region: 98.5,244.5 98.5,276.5 91.5,276.5 91.5,244.5
  region: 114,255 114,286 107,286 107,255
  region: 130.5,243.5 130.5,276.5 122.5,276.5 122.5,243.5
  region: 145.5,253.5 145.5,285.5 138.5,285.5 138.5,253.5
  region: 161.5,243.5 161.5,275.5 154.5,275.5 154.5,243.5
  region: 177,254 177,285 170,285 170,254
  region: 193,243 193,276 186,276 186,243
  region: 284,-185.3 252,-185.3 252,-192.6 284,-192.6
  region: 274,-169.8 243,-169.8 243,-176.8 274,-176.8
  region: 283,-153.8 251,-153.8 251,-161.1 283,-161.1
  region: 273,-138.3 242,-138.3 242,-145.3 273,-145.3
  region: 284,-122.4 251,-122.4 251,-129.7 284,-129.7
  region: 274,-106.9 242,-106.9 242,-113.9 274,-113.9
  region: 284,-90.9 252,-90.9 252,-98.2 284,-98.2
  region: 274,-75.4 243,-75.4 243,-82.4 274,-82.4
  region: 284,-59.4 252,-59.4 252,-66.7 284,-66.7
  region: 274,-43.9 243,-43.9 243,-50.9 274,-50.9
  region: 283,-27.9 251,-27.9 251,-35.2 283,-35.2
  region: 273,-12.4 242,-12.4 242,-19.4 273,-19.4
  region: 284,4 251,4 251,-3.8 284,-3.8
  region: 274,19 242,19 242,12 274,12
  region: 284,35 252,35 252,28 284,28
  region: 274,51 243,51 243,44 274,44
  region: 284,67 252,67 252,60 284,60
  region: 274,83 243,83 243,76 274,76
  region: 283,99 251,99 251,91 283,91
  region: 273,114 242,114 242,107 273,107
  region: 284,130 251,130 251,123 284,123
  region: 274,146 242,146 242,139 274,139
  region: 284,162 252,162 252,154 284,154
  region: 274,177 243,177 243,170 274,170
  region: 284,193 252,193 252,186 284,186
  region: -185.3,-284.2 -185.3,-251.8 -192.6,-251.8 -192.6,-284.2
  region: -169.8,-274.1 -169.8,-242.7 -176.8,-242.7 -176.8,-274.1
  region: -153.8,-283.3 -153.8,-250.91 -161.1,-250.91 -161.1,-283.3
  region: -138.3,-273.2 -138.3,-241.8 -145.3,-241.8 -145.3,-273.2
  region: -122.4,-283.8 -122.4,-251.41 -129.7,-251.41 -129.7,-283.8
  region: -106.9,-273.7 -106.9,-242.3 -113.9,-242.3 -113.9,-273.7
  region: -90.9,-284.2 -90.9,-251.8 -98.2,-251.8 -98.2,-284.2
  region: -75.4,-274.1 -75.4,-242.7 -82.4,-242.7 -82.4,-274.1
  region: -59.4,-284.2 -59.4,-251.8 -66.7,-251.8 -66.7,-284.2
  region: -43.9,-274.1 -43.9,-242.7 -50.9,-242.7 -50.9,-274.1
  region: -27.9,-283.3 -27.9,-250.91 -35.2,-250.91 -35.2,-283.3
  region: -12.4,-273.2 -12.4,-241.8 -19.4,-241.8 -19.4,-273.2
  region: 3.97,-284.28 3.97,-250.93 -3.32,-250.93 -3.32,-284.28
  region: 19.4,-274.11 19.4,-241.9 12.4,-241.9 12.4,-274.11
  region: 35.65,-284 35.65,-252 28.35,-252 28.35,-284
  region: 51,-273.9 51,-242.9 44,-242.9 44,-273.9
  region: 67.15,-284.5 67.15,-251.5 59.85,-251.5 59.85,-284.5
  region: 82.5,-274.4 82.5,-242.4 75.5,-242.4 75.5,-274.4
  region: 98.65,-283.1 98.65,-251.1 91.35,-251.1 91.35,-283.1
  region: 114,-273 114,-242 107,-242 107,-273
  region: 130.15,-284.1 130.15,-251.1 122.85,-251.1 122.85,-284.1
  region: 145.5,-274 145.5,-242 138.5,-242 138.5,-274
  region: 161.65,-284 161.65,-252 154.35,-252 154.35,-284
  region: 177,-273.9 177,-242.9 170,-242.9 170,-273.9
  region: 193.15,-284.5 193.15,-251.5 185.85,-251.5 185.85,-284.5
Mechanical 2:
  text ">NAME" at -245,345 h108.5
Mechanical 4:
  text ">VALUE" at -262.99,-383.46 h108.5
Mechanical 16:
  rectangle: -194.29,192 -183.66,232
  rectangle: -178.54,192 -167.91,232
  rectangle: -162.8,192 -152.17,232
  rectangle: -147.05,192 -136.42,232
  rectangle: -131.3,192 -120.67,232
  rectangle: -115.55,192 -104.92,232
  rectangle: -99.8,192 -89.17,232
  rectangle: -84.06,192 -73.43,232
  rectangle: -68.31,192 -57.68,232
  rectangle: -52.56,192 -41.93,232
  rectangle: -36.81,192 -26.18,232
  rectangle: -21.06,192 -10.43,232
  rectangle: -5.32,192 6,232
  rectangle: 11,192 22,232
  rectangle: 27,192 37,232
  rectangle: 42,192 53,232
  rectangle: 58,192 69,232
  rectangle: 74,192 85,232
  rectangle: 90,192 100,232
  rectangle: 105,192 116,232
  rectangle: 121,192 132,232
  rectangle: 137,192 148,232
  rectangle: 153,192 163,232
  rectangle: 168,192 179,232
  rectangle: 184,192 195,232
  rectangle: 192,184 232,195
  rectangle: 192,168 232,179
  rectangle: 192,153 232,163
  rectangle: 192,137 232,148
  rectangle: 192,121 232,132
  rectangle: 192,105 232,116
  rectangle: 192,90 232,100
  rectangle: 192,74 232,85
  rectangle: 192,58 232,69
  rectangle: 192,42 232,53
  rectangle: 192,27 232,37
  rectangle: 192,11 232,22
  rectangle: 192,-5.32 232,6
  rectangle: 192,-21.06 232,-10.43
  rectangle: 192,-36.81 232,-26.18
  rectangle: 192,-52.56 232,-41.93
  rectangle: 192,-68.31 232,-57.68
  rectangle: 192,-84.06 232,-73.43
  rectangle: 192,-99.8 232,-89.17
  rectangle: 192,-115.55 232,-104.92
  rectangle: 192,-131.3 232,-120.67
  rectangle: 192,-147.05 232,-136.42
  rectangle: 192,-162.8 232,-152.17
  rectangle: 192,-178.54 232,-167.91
  rectangle: 192,-194.29 232,-183.66
  rectangle: 184,-231.22 195,-191.65
  rectangle: 168,-231.22 179,-191.65
  rectangle: 153,-231.22 163,-191.65
  rectangle: 137,-231.22 148,-191.65
  rectangle: 121,-231.22 132,-191.65
  rectangle: 105,-231.22 116,-191.65
  rectangle: 90,-231.22 100,-191.65
  rectangle: 74,-231.22 85,-191.65
  rectangle: 58,-231.22 69,-191.65
  rectangle: 42,-231.22 53,-191.65
  rectangle: 27,-231.22 37,-191.65
  rectangle: 11,-231.22 22,-191.65
  rectangle: -5.32,-231.22 6,-191.65
  rectangle: -21.06,-231.22 -10.43,-191.65
  rectangle: -36.81,-231.22 -26.18,-191.65
  rectangle: -52.56,-231.22 -41.93,-191.65
  rectangle: -68.31,-231.22 -57.68,-191.65
  rectangle: -84.06,-231.22 -73.43,-191.65
  rectangle: -99.8,-231.22 -89.17,-191.65
  rectangle: -115.55,-231.22 -104.92,-191.65
  rectangle: -131.3,-231.22 -120.67,-191.65
  rectangle: -147.05,-231.22 -136.42,-191.65
  rectangle: -162.8,-231.22 -152.17,-191.65
  rectangle: -178.54,-231.22 -167.91,-191.65
  rectangle: -194.29,-231.22 -183.66,-191.65
  rectangle: -231.42,-194.29 -191.85,-183.66
  rectangle: -231.42,-178.54 -191.85,-167.91
  rectangle: -231.42,-162.8 -191.85,-152.17
  rectangle: -231.42,-147.05 -191.85,-136.42
  rectangle: -231.42,-131.3 -191.85,-120.67
  rectangle: -231.42,-115.55 -191.85,-104.92
  rectangle: -231.42,-99.8 -191.85,-89.17
  rectangle: -231.42,-84.06 -191.85,-73.43
  rectangle: -231.42,-68.31 -191.85,-57.68
  rectangle: -231.42,-52.56 -191.85,-41.93
  rectangle: -231.42,-36.81 -191.85,-26.18
  rectangle: -231.42,-21.06 -191.85,-10.43
  rectangle: -231.42,-5.32 -191.85,6
  rectangle: -231.42,11 -191.85,22
  rectangle: -231.42,27 -191.85,37
  rectangle: -231.42,42 -191.85,53
  rectangle: -231.42,58 -191.85,69
  rectangle: -231.42,74 -191.85,85
  rectangle: -231.42,90 -191.85,100
  rectangle: -231.42,105 -191.85,116
  rectangle: -231.42,121 -191.85,132
  rectangle: -231.42,137 -191.85,148
  rectangle: -231.42,153 -191.85,163
  rectangle: -231.42,168 -191.85,179
  rectangle: -231.42,184 -191.85,195

## UFDFN-20 [mil]
pads (20):
  rect 8x44 smd: 1(-70.87,-33.46)
  rect 8x40 smd: 2(-55.12,-35.43) 3(-39.37,-35.43) 4(-23.62,-35.43) 5(-7.87,-35.43) 6(8,-35.43) 7(24,-35.43) 8(40,-35.43) 9(56,-35.43) 10(71,-35.43) 11(71,36) 12(56,36) 13(40,36) 14(24,36) 15(8,36) 16(-7.87,36) 17(-23.62,36) 18(-39.37,36) 19(-55.12,36) 20(-70.87,36)
Top Overlay:
  circle w8: c-96.46,-39.76 r12
  lines w8: -84.65,-40.35 -84.65,41 ; 85,-40.35 85,41
Top Paste:
  rectangle: -74.8,20 -66.93,52
  rectangle: -59.06,20 -51.18,52
  rectangle: -43.31,20 -35.43,52
  rectangle: -27.56,20 -19.68,52
  rectangle: -11.81,20 -3.94,52
  rectangle: 4,20 12,52
  rectangle: 20,20 28,52
  rectangle: 36,20 44,52
  rectangle: 52,20 60,52
  region: 75,52 67,52 67,20 75,20
  rectangle: -59.06,-51.18 -51.18,-19.68
  rectangle: -43.31,-51.18 -35.43,-19.68
  rectangle: -27.56,-51.18 -19.68,-19.68
  rectangle: -11.81,-51.18 -3.94,-19.68
  rectangle: 4,-51.18 12,-19.68
  rectangle: 20,-51.18 28,-19.68
  rectangle: 36,-51.18 44,-19.68
  rectangle: 52,-51.18 60,-19.68
  region: 75,-19.69 67,-19.69 67,-51.18 75,-51.18
  rectangle: -74.8,-51.18 -66.93,-15.75
Mechanical 2:
  text ">NAME" at -88.58,63 h27.2
Mechanical 4:
  text ">VALUE" at -88.58,-94.49 h27.2
Mechanical 16:
  circle w5: c-96.46,-39.76 r12
  lines w5: -84.65,-40.35 -84.65,41 ; 85,-40.35 85,41

## VQFN-28 [mil]
pads (29):
  rrect50% 33x10 smd: 1(-78.74,54) 2(-78.74,36) 3(-78.74,18) 4(-78.74,0) 5(-78.74,-17.72) 6(-78.74,-35.43) 7(-78.74,-53.15) 15(79,-53.15) 16(79,-35.43) 17(79,-17.72) 18(79,0) 19(79,18) 20(79,36) 21(79,54)
  rrect50% 10x33 smd: 8(-53.15,-78.74) 9(-35.43,-78.74) 10(-17.72,-78.74) 11(0,-78.74) 12(18,-78.74) 13(36,-78.74) 14(54,-78.74) 22(54,79) 23(36,79) 24(18,79) 25(0,79) 26(-17.72,79) 27(-35.43,79) 28(-53.15,79)
  rect 95x95 smd: PAD(0,0)
Top Overlay:
  circle w8: c-94.49,75 r8
  lines w8: -78.74,-66.93 -78.74,-78.74 -66.93,-78.74 ; -74.8,67 -66.93,75 ; 67,-78.74 79,-78.74 79,-66.93 ; 67,79 79,79 79,67
Top Paste:
  rectangle: -35.19,-35.19 -9.1,-9.1
  region: 36,36 10,36 10,10 36,10
  rectangle: -35.19,10 -9.1,36
  region: 36,-9.1 10,-9.1 10,-35.19 36,-35.19
Mechanical 2:
  text ">NAME" at -78.74,103 h37.2
Mechanical 4:
  text ">VALUE" at -78.74,-129.92 h37.2
Mechanical 16:
  lines w5: -78.74,-78.74 -78.74,79 79,79 79,-78.74 -78.74,-78.74